# EAGLE library part PAM2321 (library PAM2321)
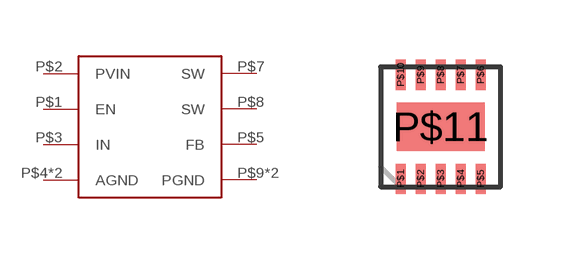
[diagram p0: symbol with the pads of TDFN3X3-10L; footprint TDFN3X3-10L]

Designator prefix -

## PAM2321  [TDFN3X3-10L]
P$1  EN
P$2  PVIN
P$3  IN
P$4  AGND
P$5  FB
P$6  AGND
P$7  SW
P$8  SW
P$9  PGND
P$10  PGND

## Footprint TDFN3X3-10L (pad centres in mm)
smd 0.25 x 0.75: P$1 -1,-1.3; P$2 -0.5,-1.3; P$3 0,-1.3; P$4 0.5,-1.3; P$5 1,-1.3; P$6 1,1.3; P$7 0.5,1.3; P$8 0,1.3; P$9 -0.5,1.3; P$10 -1,1.3
smd 2.2 x 1.2: P$11 0,0